# EAGLE library part 74LVC2T45DC,125 (library 74LVC2T45DC_125)
74LVC2T45; 74LVCH2T45 - Dual supply translating transceiver; 3-state@en-us Source: Datasheet <https://assets.nexperia.com/documents/data-sheet/74LVC_LVCH2T45.pdf>
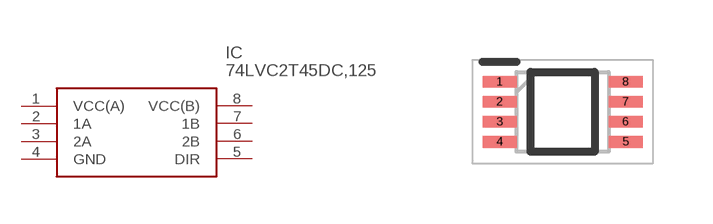
[diagram p0: symbol with the pads of SOP50P310X100-8N; footprint SOP50P310X100-8N]

Designator prefix IC

## 74LVC2T45DC,125 (Description: 74LVC2T45; 74LVCH2T45 - Dual supply translating transceiver; 3-state@en-us; Height: 1mm; Manufacturer_Name: Nexperia; Manufacturer_Part_Number: 74LVC2T45DC,125; Mouser_Part_Number: 771-74LVC2T45DC125; Mouser_Price-Stock: https://www.mouser.co.uk/ProductDetail/Nexperia/74LVC2T45DC125?qs=jquClx72t9CXQGU9YSJngw%3D%3D)  [SOP50P310X100-8N]
1  VCC(A)
2  1A
3  2A
4  GND
5  DIR
6  2B
7  1B
8  VCC(B)

## Footprint SOP50P310X100-8N (pad centres in mm)
SOT765-1
smd 0.85 x 0.3: 1 -1.575,0.75; 2 -1.575,0.25; 3 -1.575,-0.25; 4 -1.575,-0.75; 5 1.575,-0.75; 6 1.575,-0.25; 7 1.575,0.25; 8 1.575,0.75